# Altium schematic symbol library CBC2012T4R7M.Schlib: 1 symbol
Pins are listed as number, name and electrical type; pins without a type are passive.

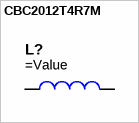
[diagram p0: symbol CBC2012T4R7M]

## CBC2012T4R7M
designator L?
FIXED IND 4.7UH 520MA 650 MOHM
pins: 1, 2